# EAGLE library part BMC150 (library igorsales)
BMC150 Digital Compass - http://www.mouser.com/ds/2/621/BST-BMC150-DS000-03-274671.pdf
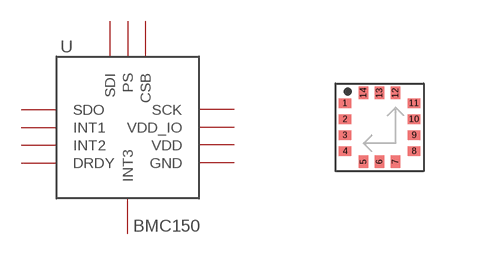
[diagram p5: symbol with the pads of LGA-14-2.2MMX2.2MM; footprint LGA-14-2.2MMX2.2MM]

Designator prefix -

## BMC150  [LGA-14-2.2MMX2.2MM]
1  SDO
2  INT1
3  INT2
4  DRDY
5  INT3
6  GND
7  GND
8  VDD
9  GND
10  VDD_IO
11  SCK
12  CSB
13  PS
14  SDI

## Footprint LGA-14-2.2MMX2.2MM (pad centres in mm)
LGA-14 2.2mm x 2.2mm as in BCM150 http://www.mouser.com/ds/2/621/BST-BMC150-DS000-03-274671.pdf
smd 0.32 x 0.23: 1 -0.863,0.6; 2 -0.863,0.2; 3 -0.863,-0.2; 4 -0.863,-0.6; 8 0.863,-0.6; 9 0.863,-0.2; 10 0.863,0.2; 11 0.863,0.6
smd 0.23 x 0.32: 5 -0.4,-0.863; 6 0,-0.863; 7 0.4,-0.863; 12 0.4,0.863; 13 0,0.863; 14 -0.4,0.863